# Altium schematic symbol library AltiumV15.SchLib: 1 symbol
Pins are listed as number, name and electrical type; pins without a type are passive.

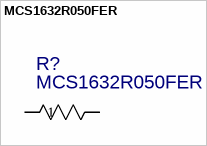
[diagram p0: symbol MCS1632R050FER]

## MCS1632R050FER
designator R?
C: Copyright (C) 2015 Accelerated Designs. All rights reserved; Vendor: Ohmite; Built_By: EMA_UL_Team; Manufacturer_Part_Number: MCS1632R050FER; Value: MCS1632R050FER
footprint RES_1206
pins: 1, 2
1 alternate drawing of the same symbol